# Altium footprint library PcbLib_LED 2.PcbLib: 1 footprints
Each footprint in its own frame and in the unit in brackets; x right, y up, seen from the top. Pads: shape width x height; smd on the part's side, far side on the other; paste and mask are expansions set on the pad; w line width, h text height; cw(c..) or ccw(c..) is an arc to the next point about the centre after c.
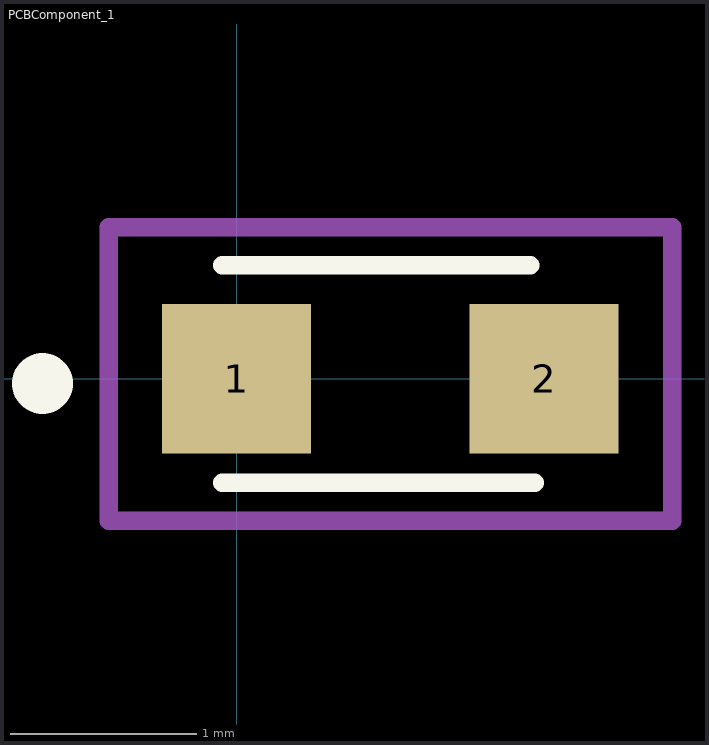
[diagram p0: the footprint, top view; thin cyan lines are the x and y axes]

## PCBComponent_1 [mm]
pads (2):
  rect 0.8x0.8 smd: 1(0,0) 2(1.65,0)
Top Overlay:
  circle w0.254: c-1.041,-0.025 r0.036
  lines w0.1: -0.076,-0.559 1.6,-0.559 ; -0.076,0.61 1.575,0.61
Mechanical29:
  lines w0.1: -0.686,-0.762 2.337,-0.762 2.337,0.813 -0.686,0.813 -0.686,-0.762
3D body "KPT-1608ZGC.STEP": height 1.11, standoff 0.01, extent -0.013,-0.375 1.587,0.425